# Altium footprint library semicon-chip.PcbLib: 62 footprints (part 1 of 4)
Each footprint in its own frame and in the unit in brackets; x right, y up, seen from the top. Pads: shape width x height; smd on the part's side, far side on the other; paste and mask are expansions set on the pad; w line width, h text height; cw(c..) or ccw(c..) is an arc to the next point about the centre after c.
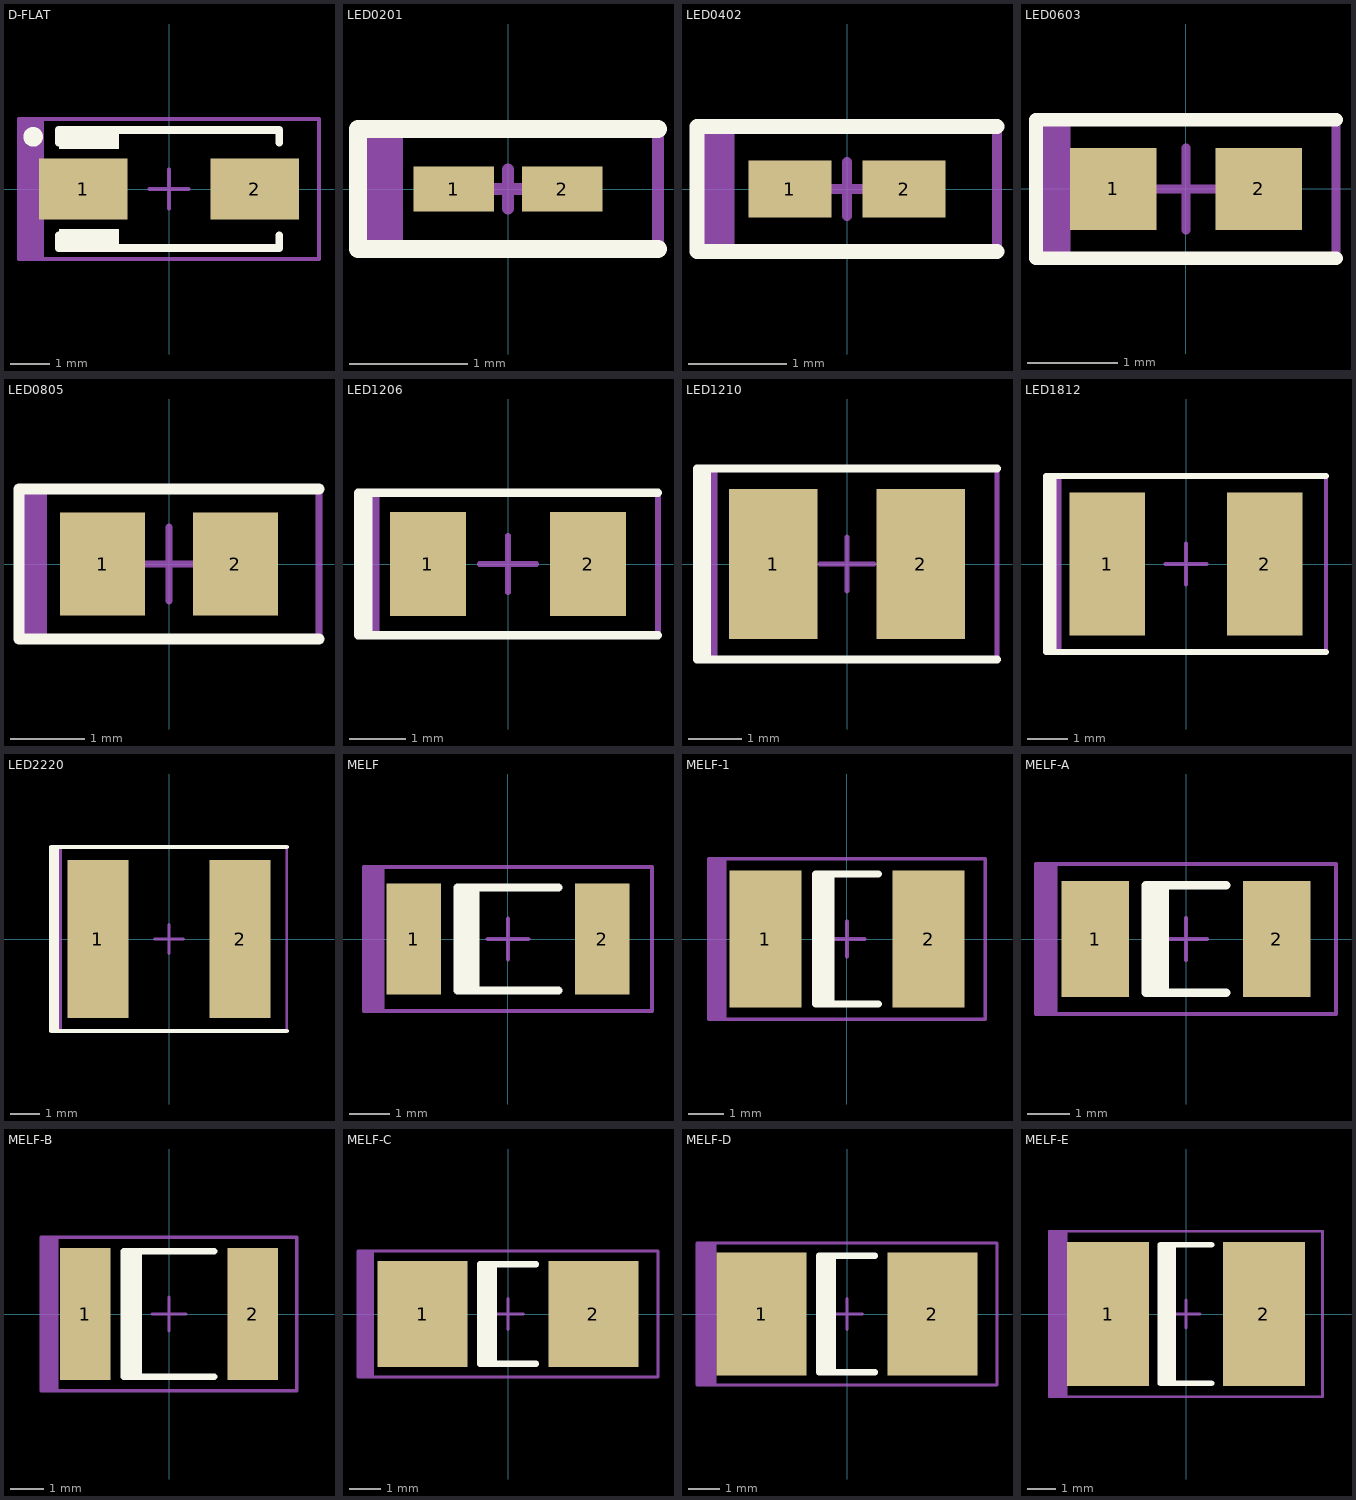
[diagram p0: the footprints below, top view; thin cyan lines are the x and y axes]

## D-FLAT [mm] "Molded Diode, 2-Leads, Body 5,30x2,60mm, IPC Medium Density"
height 1.1
pads (2):
  rect 2.25x1.55 smd: 1(-2.175,0) 2(2.175,0)
Top Overlay:
  circle w0.25: c-3.45,1.325 r0.125
  region: -1.27,1.016 -1.27,1.524 -2.794,1.524 -2.794,1.016
  region: -2.794,-1.016 -2.794,-1.524 -1.27,-1.524 -1.27,-1.016
  lines w0.2: -2.8,-1.175 -2.8,-1.5 2.8,-1.5 2.8,-1.175 ; -2.8,1.175 -2.8,1.5 2.8,1.5 2.8,1.175
Mechanical 13:
  rectangle: -3.81,-1.778 -3.175,1.778
  lines w0.1: -3.81,-1.778 3.81,-1.778 3.81,1.778 -3.81,1.778 -3.81,-1.778
  text ".Designator" at -2.794,-0.635 h1.4
Mechanical 15:
  lines w0.05: -3.81,-1.778 3.81,-1.778 3.81,1.778 -3.81,1.778 -3.81,-1.778
  lines w0.1: -0.5,0 0.5,0 ; 0,-0.5 0,0.5
3D body: height 1.1, standoff 0, extent -2.8,-1.475 2.8,1.475

## LED0201 [mm] "Chip Capacitor, 2-Leads, Body 0,60x0,30mm, IPC Medium Density"
height 0.33
pads (2):
  rect 0.68x0.38 smd: 1(-0.46,0) 2(0.46,0)
Top Overlay:
  lines w0.15: 1.27,-0.508 -1.27,-0.508 -1.27,0.508 1.27,0.508
Mechanical 13:
  rectangle: -1.27,-0.508 -0.889,0.508
  lines w0.1: -1.27,-0.508 -1.27,0.508 1.27,0.508 1.27,-0.508 -1.27,-0.508
  text ".Designator" at -0.76,-0.16 h0.4
Mechanical 15:
  lines w0.05: -1.27,-0.508 -1.27,0.508 1.27,0.508 1.27,-0.508 -1.27,-0.508
  lines w0.1: -0.165,0 0.165,0 ; 0,-0.165 0,0.165
3D body: height 0.33, standoff 0, extent -0.165,-0.165 0.165,0.165
3D body: height 0.33, standoff 0, extent -0.315,-0.165 -0.165,0.165
3D body: height 0.33, standoff 0, extent 0.165,-0.165 0.315,0.165

## LED0402 [mm] "Chip Capacitor, 2-Leads, Body 1,00x0,50mm, IPC Medium Density"
height 0.55
pads (2):
  rect 0.84x0.58 smd: 1(-0.58,0) 2(0.58,0)
Top Overlay:
  lines w0.15: 1.524,-0.635 -1.524,-0.635 -1.524,0.635 1.524,0.635
Mechanical 13:
  rectangle: -1.524,-0.635 -1.143,0.635
  lines w0.1: -1.524,-0.635 -1.524,0.635 1.524,0.635 1.524,-0.635 -1.524,-0.635
  text ".Designator" at -0.9,-0.23 h0.5
Mechanical 15:
  lines w0.05: -1.524,-0.635 -1.524,0.635 1.524,0.635 1.524,-0.635 -1.524,-0.635
  lines w0.1: -0.275,0 0.275,0 ; 0,-0.275 0,0.275
3D body: height 0.55, standoff 0, extent -0.245,-0.275 0.245,0.275
3D body: height 0.55, standoff 0, extent -0.525,-0.275 -0.245,0.275
3D body: height 0.55, standoff 0, extent 0.245,-0.275 0.525,0.275

## LED0603 [mm] "Chip Capacitor, 2-Leads, Body 1,60x0,80mm, IPC Medium Density"
height 0.9
pads (2):
  rect 0.95x0.9 smd: 1(-0.8,0) 2(0.8,0)
Top Overlay:
  lines w0.15: 1.651,-0.762 -1.651,-0.762 -1.651,0.762 1.651,0.762
Mechanical 13:
  rectangle: -1.651,-0.762 -1.27,0.762
  lines w0.1: -1.651,-0.762 1.651,-0.762 1.651,0.762 -1.651,0.762 -1.651,-0.762
  text ".Designator" at -1.14,-0.28 h0.6
Mechanical 15:
  lines w0.05: -1.651,-0.762 1.651,-0.762 1.651,0.762 -1.651,0.762 -1.651,-0.762
  lines w0.1: -0.45,0 0.45,0 ; 0,-0.45 0,0.45
3D body: height 0.9, standoff 0, extent 0.55,-0.45 0.85,0.45
3D body: height 0.9, standoff 0, extent -0.85,-0.45 -0.55,0.45
3D body: height 0.9, standoff 0, extent -0.55,-0.45 0.55,0.45

## LED0805 [mm] "Chip Capacitor, 2-Leads, Body 2,00x1,25mm, IPC Medium Density"
height 1.35
pads (2):
  rect 1.15x1.4 smd: 1(-0.9,0) 2(0.9,0)
Top Overlay:
  lines w0.15: 2.032,-1.016 -2.032,-1.016 -2.032,1.016 2.032,1.016
Mechanical 13:
  rectangle: -2.032,-1.016 -1.651,1.016
  lines w0.1: -2.032,-1.016 -2.032,1.016 2.032,1.016 2.032,-1.016 -2.032,-1.016
  text ".Designator" at -1.45,-0.36 h0.75
Mechanical 15:
  lines w0.05: -2.032,-1.016 -2.032,1.016 2.032,1.016 2.032,-1.016 -2.032,-1.016
  lines w0.1: -0.5,0 0.5,0 ; 0,-0.5 0,0.5
3D body: height 0.9, standoff 0, extent -0.6,-0.675 0.6,0.675
3D body: height 0.9, standoff 0, extent -1.05,-0.675 -0.6,0.675
3D body: height 0.9, standoff 0, extent 0.6,-0.675 1.05,0.675

## LED1206 [mm] "Chip Capacitor, 2-Leads, Body 3,20x1,60mm, IPC Medium Density"
height 1.8
pads (2):
  rect 1.35x1.85 smd: 1(-1.425,0) 2(1.425,0)
Top Overlay:
  region: -2.667,1.269 -2.667,-1.27 -2.413,-1.27 -2.413,1.269
  lines w0.15: 2.667,-1.27 -2.667,-1.27 -2.667,1.269 2.667,1.269
Mechanical 13:
  rectangle: -2.667,-1.27 -2.286,1.27
  lines w0.1: -2.667,-1.27 2.667,-1.27 2.667,1.27 -2.667,1.27 -2.667,-1.27
  text ".Designator" at -1.95,-0.49 h1
Mechanical 15:
  lines w0.05: -2.667,-1.27 2.667,-1.27 2.667,1.27 -2.667,1.27 -2.667,-1.27
  lines w0.1: -0.5,0 0.5,0 ; 0,-0.5 0,0.5
3D body: height 1.5, standoff 0, extent 1.2,-0.9 1.7,0.9
3D body: height 1.5, standoff 0, extent -1.7,-0.9 -1.2,0.9
3D body: height 1.5, standoff 0, extent -1.2,-0.9 1.2,0.9

## LED1210 [mm] "Chip Capacitor, 2-Leads, Body 3,20x2,50mm, IPC Medium Density"
height 2.8
pads (2):
  rect 1.65x2.8 smd: 1(-1.375,0) 2(1.375,0)
Top Overlay:
  region: -2.794,1.777 -2.794,-1.778 -2.54,-1.778 -2.54,1.777
  lines w0.15: 2.794,-1.778 -2.794,-1.778 -2.794,1.777 2.794,1.777
Mechanical 13:
  rectangle: -2.794,-1.778 -2.413,1.778
  lines w0.1: -2.794,-1.778 -2.794,1.777 2.794,1.777 2.794,-1.778 -2.794,-1.778
  text ".Designator" at -2.19,-0.49 h1.1
Mechanical 15:
  lines w0.05: -2.794,-1.778 2.794,-1.778 2.794,1.778 -2.794,1.778 -2.794,-1.778
  lines w0.1: -0.5,0 0.5,0 ; 0,-0.5 0,0.5
3D body: height 1.5, standoff 0, extent 1.2,-1.4 1.8,1.4
3D body: height 1.5, standoff 0, extent -1.8,-1.4 -1.2,1.4
3D body: height 1.5, standoff 0, extent -1.2,-1.4 1.2,1.4

## LED1812 [mm] "Chip Capacitor, 2-Leads, Body 4,50x3,20mm, IPC Medium Density"
height 3.5
pads (2):
  rect 1.85x3.5 smd: 1(-1.925,0) 2(1.925,0)
Top Overlay:
  region: -3.429,2.158 -3.429,-2.159 -3.175,-2.159 -3.175,2.158
  lines w0.15: 3.429,-2.159 -3.429,-2.159 -3.429,2.158 3.429,2.158
Mechanical 13:
  rectangle: -3.429,-2.159 -3.048,2.159
  lines w0.1: -3.429,-2.159 3.429,-2.159 3.429,2.159 -3.429,2.159 -3.429,-2.159
  text ".Designator" at -2.64,-0.58 h1.3
Mechanical 15:
  lines w0.05: -3.429,-2.159 3.429,-2.159 3.429,2.159 -3.429,2.159 -3.429,-2.159
  lines w0.1: -0.5,0 0.5,0 ; 0,-0.5 0,0.5
3D body: height 2, standoff 0, extent 1.65,-1.75 2.45,1.75
3D body: height 2, standoff 0, extent -2.45,-1.75 -1.65,1.75
3D body: height 2, standoff 0, extent -1.65,-1.75 1.65,1.75

## LED2220 [mm] "Chip Capacitor, 2-Leads, Body 5,70x5,00mm, IPC Medium Density"
height 3.5
pads (2):
  rect 2.1x5.45 smd: 1(-2.45,0) 2(2.45,0)
Top Overlay:
  region: -4.064,3.174 -4.064,-3.175 -3.81,-3.175 -3.81,3.174
  lines w0.15: 4.064,-3.175 -4.064,-3.175 -4.064,3.174 4.064,3.174
Mechanical 13:
  rectangle: -4.064,-3.175 -3.683,3.175
  lines w0.1: -4.064,-3.175 -4.064,3.175 4.064,3.175 4.064,-3.175 -4.064,-3.175
  text ".Designator" at -3.16,-0.65 h1.5
Mechanical 15:
  lines w0.05: -4.064,-3.175 -4.064,3.175 4.064,3.175 4.064,-3.175 -4.064,-3.175
  lines w0.1: -0.5,0 0.5,0 ; 0,-0.5 0,0.5
3D body: height 2, standoff 0, extent -2.05,-2.7 2.05,2.7
3D body: height 2, standoff 0, extent -3.05,-2.7 -2.05,2.7
3D body: height 2, standoff 0, extent 2.05,-2.7 3.05,2.7

## MELF [mm] "MELF Diode, 2-Leads, Body 5,00x2,50mm, IPC Medium Density"
height 2.6
pads (2):
  rect 1.35x2.75 smd: 1(-2.325,0) 2(2.325,0)
Top Overlay:
  rectangle: -1.25,-1.275 -0.7,1.275
  lines w0.2: 1.25,-1.275 -1.25,-1.275 -1.25,1.275 1.25,1.275
Mechanical 13:
  rectangle: -3.556,-1.778 -3.048,1.778
  lines w0.1: -3.556,-1.778 3.556,-1.778 3.556,1.778 -3.556,1.778 -3.556,-1.778
  text ".Designator" at -2.73,-0.59 h1.3
Mechanical 15:
  lines w0.05: -3.556,-1.778 3.556,-1.778 3.556,1.778 -3.556,1.778 -3.556,-1.778
  lines w0.1: -0.5,0 0.5,0 ; 0,-0.5 0,0.5
3D body: height 2.59, standoff 0, extent 1.95,-1.3 2.6,1.295
3D body: height 2.57, standoff 0.05, extent -1.95,-1.27 1.95,1.265
3D body: height 2.58, standoff 0.04, extent -1.35,-1.271 -0.75,1.266
3D body: height 2.59, standoff 0, extent -2.6,-1.3 -1.95,1.295

## MELF-1 [mm] "MELF Diode, 2-Leads, Body 5,05x3,60mm, IPC Medium Density"
height 3.8
pads (2):
  rect 2.05x3.9 smd: 1(-2.325,0) 2(2.325,0)
Top Overlay:
  rectangle: -0.9,-1.85 -0.35,1.85
  lines w0.2: 0.9,-1.85 -0.9,-1.85 -0.9,1.85 0.9,1.85
Mechanical 13:
  rectangle: -3.937,-2.286 -3.429,2.286
  lines w0.1: -3.937,-2.286 3.937,-2.286 3.937,2.286 -3.937,2.286 -3.937,-2.286
  text ".Designator" at -3.11,-0.7 h1.5
Mechanical 15:
  lines w0.05: -3.937,-2.286 3.937,-2.286 3.937,2.286 -3.937,2.286 -3.937,-2.286
  lines w0.1: -0.5,0 0.5,0 ; 0,-0.5 0,0.5
3D body: height 3.8, standoff 0, extent 2.25,-1.9 2.95,1.893
3D body: height 3.78, standoff 0.05, extent -2.25,-1.87 2.25,1.863
3D body: height 3.79, standoff 0.04, extent -1.65,-1.871 -1.05,1.864
3D body: height 3.8, standoff 0, extent -2.95,-1.9 -2.25,1.893

## MELF-A [mm] "MELF Diode, 2-Leads, Body 4,70x2,45mm, IPC Medium Density"
height 2.6
pads (2):
  rect 1.6x2.75 smd: 1(-2.15,0) 2(2.15,0)
Top Overlay:
  rectangle: -0.95,-1.275 -0.4,1.275
  lines w0.2: 0.95,-1.275 -0.95,-1.275 -0.95,1.275 0.95,1.275
Mechanical 13:
  rectangle: -3.556,-1.778 -3.048,1.778
  lines w0.1: -3.556,-1.778 3.556,-1.778 3.556,1.778 -3.556,1.778 -3.556,-1.778
  text ".Designator" at -2.79,-0.69 h1.4
Mechanical 15:
  lines w0.05: -3.556,-1.778 3.556,-1.778 3.556,1.778 -3.556,1.778 -3.556,-1.778
  lines w0.1: -0.5,0 0.5,0 ; 0,-0.5 0,0.5
3D body: height 2.59, standoff 0, extent 1.85,-1.3 2.55,1.295
3D body: height 2.57, standoff 0.05, extent -1.85,-1.27 1.85,1.265
3D body: height 2.58, standoff 0.04, extent -1.25,-1.271 -0.65,1.266
3D body: height 2.59, standoff 0, extent -2.55,-1.3 -1.85,1.295

## MELF-B [mm] "MELF Diode, 2-Leads, Body 5,40x3,65mm, IPC Medium Density"
height 3.8
pads (2):
  rect 1.5x3.95 smd: 1(-2.5,0) 2(2.5,0)
Top Overlay:
  rectangle: -1.35,-1.875 -0.8,1.875
  lines w0.2: 1.35,-1.875 -1.35,-1.875 -1.35,1.875 1.35,1.875
Mechanical 13:
  rectangle: -3.81,-2.286 -3.302,2.286
  lines w0.1: -3.81,-2.286 3.81,-2.286 3.81,2.286 -3.81,2.286 -3.81,-2.286
  text ".Designator" at -2.95,-0.64 h1.4
Mechanical 15:
  lines w0.05: -3.81,-2.286 3.81,-2.286 3.81,2.286 -3.81,2.286 -3.81,-2.286
  lines w0.1: -0.5,0 0.5,0 ; 0,-0.5 0,0.5
3D body: height 3.8, standoff 0, extent 2.15,-1.9 2.85,1.893
3D body: height 3.78, standoff 0.05, extent -2.15,-1.87 2.15,1.863
3D body: height 3.79, standoff 0.04, extent -1.55,-1.871 -0.95,1.864
3D body: height 3.8, standoff 0, extent -2.85,-1.9 -2.15,1.893

## MELF-C [mm] "MELF Diode, 2-Leads, Body 5,90x2,80mm, IPC Medium Density"
height 3.3
pads (2):
  rect 2.9x3.4 smd: 1(-2.75,0) 2(2.75,0)
Top Overlay:
  rectangle: -0.9,-1.6 -0.35,1.6
  lines w0.2: 0.9,-1.6 -0.9,-1.6 -0.9,1.6 0.9,1.6
Mechanical 13:
  rectangle: -4.826,-2.032 -4.318,2.032
  lines w0.1: -4.826,-2.032 -4.826,2.032 4.826,2.032 4.826,-2.032 -4.826,-2.032
  text ".Designator" at -4.01,-0.83 h1.9
Mechanical 15:
  lines w0.05: -4.826,-2.032 -4.826,2.032 4.826,2.032 4.826,-2.032 -4.826,-2.032
  lines w0.1: -0.5,0 0.5,0 ; 0,-0.5 0,0.5
3D body: height 3.3, standoff 0, extent -3.8,-1.65 -3.1,1.644
3D body: height 3.29, standoff 0.04, extent -2.5,-1.621 -1.9,1.615
3D body: height 3.28, standoff 0.05, extent -3.1,-1.62 3.1,1.614
3D body: height 3.3, standoff 0, extent 3.1,-1.65 3.8,1.644

## MELF-D [mm] "MELF Diode, 2-Leads, Body 5,90x3,65mm, IPC Medium Density"
height 3.8
pads (2):
  rect 2.9x3.95 smd: 1(-2.75,0) 2(2.75,0)
Top Overlay:
  rectangle: -0.9,-1.875 -0.35,1.875
  lines w0.2: 0.9,-1.875 -0.9,-1.875 -0.9,1.875 0.9,1.875
Mechanical 13:
  rectangle: -4.826,-2.286 -4.191,2.286
  lines w0.1: -4.826,-2.286 4.826,-2.286 4.826,2.286 -4.826,2.286 -4.826,-2.286
  text ".Designator" at -3.93,-0.84 h1.8
Mechanical 15:
  lines w0.05: -4.826,-2.286 4.826,-2.286 4.826,2.286 -4.826,2.286 -4.826,-2.286
  lines w0.1: -0.5,0 0.5,0 ; 0,-0.5 0,0.5
3D body: height 3.8, standoff 0, extent 3.1,-1.9 3.8,1.893
3D body: height 3.78, standoff 0.05, extent -3.1,-1.87 3.1,1.863
3D body: height 3.79, standoff 0.04, extent -2.5,-1.871 -1.9,1.864
3D body: height 3.8, standoff 0, extent -3.8,-1.9 -3.1,1.893

## MELF-E [mm] "MELF Diode, 2-Leads, Body 5,90x4,70mm, IPC Medium Density"
height 5
pads (2):
  rect 2.9x5.1 smd: 1(-2.75,0) 2(2.75,0)
Top Overlay:
  rectangle: -0.9,-2.45 -0.35,2.45
  lines w0.2: 0.9,-2.45 -0.9,-2.45 -0.9,2.45 0.9,2.45
Mechanical 13:
  rectangle: -4.826,-2.921 -4.191,2.921
  lines w0.1: -4.826,-2.921 4.826,-2.921 4.826,2.921 -4.826,2.921 -4.826,-2.921
  text ".Designator" at -3.91,-0.88 h1.8
Mechanical 15:
  lines w0.05: -4.826,-2.921 4.826,-2.921 4.826,2.921 -4.826,2.921 -4.826,-2.921
  lines w0.1: -0.5,0 0.5,0 ; 0,-0.5 0,0.5
3D body: height 5, standoff 0, extent 3.1,-2.502 3.8,2.492
3D body: height 4.98, standoff 0.04, extent -3.1,-2.472 3.1,2.462
3D body: height 4.99, standoff 0.04, extent -2.5,-2.473 -1.9,2.463
3D body: height 5, standoff 0, extent -3.8,-2.502 -3.1,2.492